# Altium footprint library Pattern No3d 20090609.PcbLib: 323 footprints (part 17 of 22)
Each footprint in its own frame and in the unit in brackets; x right, y up, seen from the top. Pads: shape width x height; smd on the part's side, far side on the other; paste and mask are expansions set on the pad; w line width, h text height; cw(c..) or ccw(c..) is an arc to the next point about the centre after c.
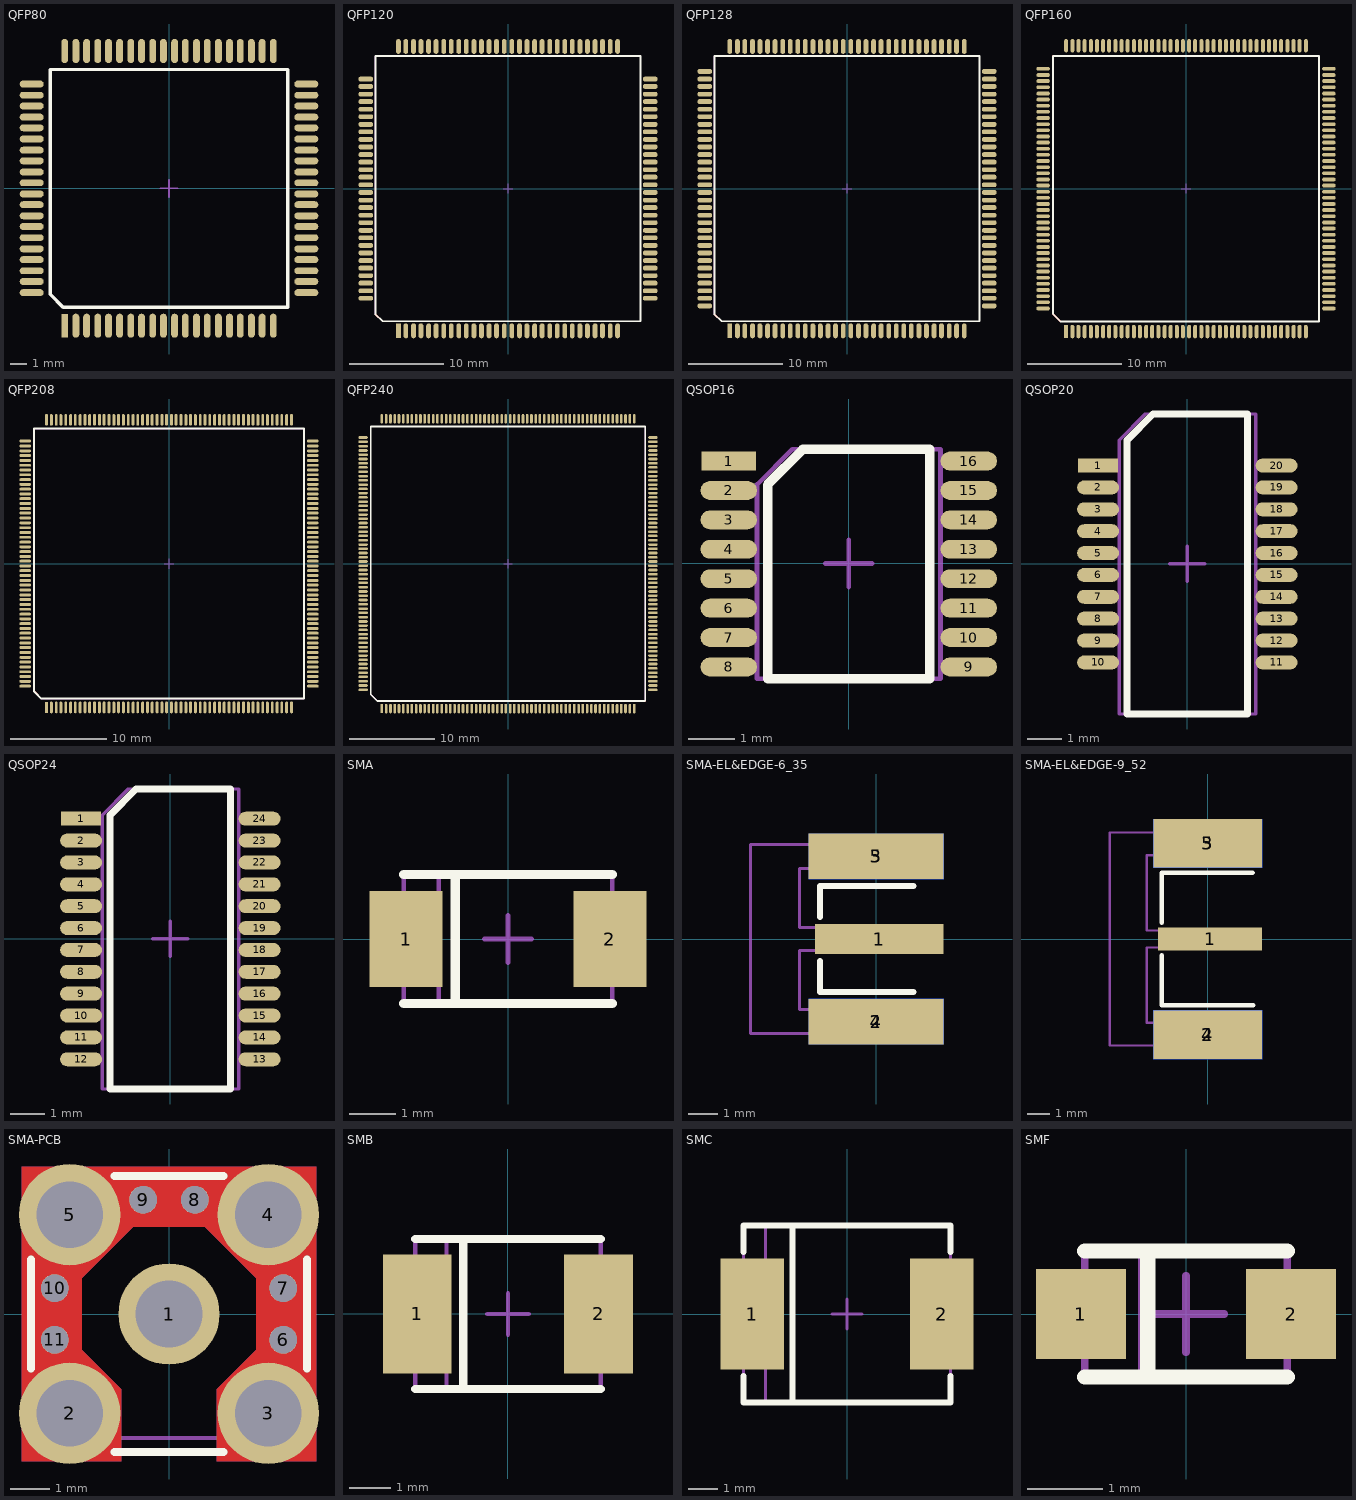
[diagram p16: the footprints below, top view; thin cyan lines are the x and y axes]

## QFP80 [mil] "http://www.nxp.com/acrobat_download/packages/SOT496-1.pdf"
pads (80):
  rect 16x54 smd mask-1000: 1(-243,-320)
  oval 16x56 smd mask-1000: 2(-217,-320) 3(-192,-320) 4(-166,-320) 5(-141,-320) 6(-115,-320) 7(-89,-320) 8(-64,-320) 9(-38,-320) 10(-13,-320) 11(13,-320) 12(38,-320) 13(64,-320) 14(89,-320) 15(115,-320) 16(141,-320) 17(166,-320) 18(192,-320) 19(217,-320) 20(243,-320) 41(243,320) 42(217,320) 43(192,320) 44(166,320) 45(141,320) 46(115,320) 47(89,320) 48(64,320) 49(38,320) 50(13,320) 51(-13,320) 52(-38,320) 53(-64,320) 54(-89,320) 55(-115,320) 56(-141,320) 57(-166,320) 58(-192,320) 59(-217,320) 60(-243,320)
  oval 56x16 smd mask-1000: 21(320,-243) 22(320,-217) 23(320,-192) 24(320,-166) 25(320,-141) 26(320,-115) 27(320,-89) 28(320,-64) 29(320,-38) 30(320,-13) 31(320,13) 32(320,38) 33(320,64) 34(320,89) 35(320,115) 36(320,141) 37(320,166) 38(320,192) 39(320,217) 40(320,243) 61(-320,243) 62(-320,217) 63(-320,192) 64(-320,166) 65(-320,141) 66(-320,115) 67(-320,89) 68(-320,64) 69(-320,38) 70(-320,13) 71(-320,-13) 72(-320,-38) 73(-320,-64) 74(-320,-89) 75(-320,-115) 76(-320,-141) 77(-320,-166) 78(-320,-192) 79(-320,-217) 80(-320,-243)
Top Overlay:
  lines w8: -277,-247 -247,-277 277,-277 277,277 -277,277 -277,-247
Top Solder:
  region: -234,-351 -234,-289 -254,-289 -254,-351
  lines w18: -343,-217 -297,-217 ; -343,-192 -297,-192 ; -343,-166 -297,-166 ; -343,-141 -297,-141 ; -343,-115 -297,-115 ; -343,-89 -297,-89 ; -343,-64 -297,-64 ; -343,-38 -297,-38 ; -343,-13 -297,-13 ; -343,13 -297,13 ; -343,38 -297,38 ; -343,64 -297,64 ; -343,89 -297,89 ; -343,115 -297,115 ; -343,141 -297,141 ; -343,166 -297,166 ; -343,192 -297,192 ; -343,217 -297,217 ; -217,-343 -217,-297 ; -217,297 -217,343 ; -192,-343 -192,-297 ; -192,297 -192,343 ; -166,-343 -166,-297 ; -166,297 -166,343 ; -141,-343 -141,-297 ; -141,297 -141,343 ; -115,-343 -115,-297 ; -115,297 -115,343 ; -89,-343 -89,-297 ; -89,297 -89,343 ; -64,-343 -64,-297 ; -64,297 -64,343 ; -38,-343 -38,-297 ; -38,297 -38,343 ; -13,-343 -13,-297 ; -13,297 -13,343 ; 13,-343 13,-297 ; 13,297 13,343 ; 38,-343 38,-297 ; 38,297 38,343 ; 64,-343 64,-297 ; 64,297 64,343 ; 89,-343 89,-297 ; 89,297 89,343 ; 115,-343 115,-297 ; 115,297 115,343 ; 141,-343 141,-297 ; 141,297 141,343 ; 166,-343 166,-297 ; 166,297 166,343 ; 192,-343 192,-297 ; 192,297 192,343 ; 217,-343 217,-297 ; 217,297 217,343 ; 297,-217 343,-217 ; 297,-192 343,-192 ; 297,-166 343,-166 ; 297,-141 343,-141 ; 297,-115 343,-115 ; 297,-89 343,-89 ; 297,-64 343,-64 ; 297,-38 343,-38 ; 297,-13 343,-13 ; 297,13 343,13 ; 297,38 343,38 ; 297,64 343,64 ; 297,89 343,89 ; 297,115 343,115 ; 297,141 343,141 ; 297,166 343,166 ; 297,192 343,192 ; 297,217 343,217
  lines w20: -342,-244 -298,-244 ; -342,244 -298,244 ; -244,298 -244,342 ; 244,-342 244,-298 ; 244,298 244,342 ; 298,-244 342,-244 ; 298,244 342,244
Mechanical 1:
  lines w4: -277,-247 -247,-277 277,-277 277,277 -277,277 -277,-247
Mechanical 15:
  lines w4: -20,0 20,0 ; 0,-20 0,20

## QFP120 [mil] "http://www.nxp.com/acrobat_download/packages/SOT349-2.pdf"
pads (120):
  rect 20x60 smd mask-1000: 1(-457,-593)
  oval 20x62 smd mask-1000: 2(-426,-593) 3(-394,-593) 4(-363,-593) 5(-331,-593) 6(-300,-593) 7(-268,-593) 8(-237,-593) 9(-205,-593) 10(-174,-593) 11(-142,-593) 12(-111,-593) 13(-79,-593) 14(-48,-593) 15(-16,-593) 16(16,-593) 17(48,-593) 18(79,-593) 19(111,-593) 20(142,-593) 21(174,-593) 22(205,-593) 23(237,-593) 24(268,-593) 25(300,-593) 26(331,-593) 27(363,-593) 28(394,-593) 29(426,-593) 30(457,-593) 61(457,593) 62(426,593) 63(394,593) 64(363,593) 65(331,593) 66(300,593) 67(268,593) 68(237,593) 69(205,593) 70(174,593) 71(142,593) 72(111,593) 73(79,593) 74(48,593) 75(16,593) 76(-16,593) 77(-48,593) 78(-79,593) 79(-111,593) 80(-142,593) 81(-174,593) 82(-205,593) 83(-237,593) 84(-268,593) 85(-300,593) 86(-331,593) 87(-363,593) 88(-394,593) 89(-426,593) 90(-457,593)
  oval 62x20 smd mask-1000: 31(593,-457) 32(593,-426) 33(593,-394) 34(593,-363) 35(593,-331) 36(593,-300) 37(593,-268) 38(593,-237) 39(593,-205) 40(593,-174) 41(593,-142) 42(593,-111) 43(593,-79) 44(593,-48) 45(593,-16) 46(593,16) 47(593,48) 48(593,79) 49(593,111) 50(593,142) 51(593,174) 52(593,205) 53(593,237) 54(593,268) 55(593,300) 56(593,331) 57(593,363) 58(593,394) 59(593,426) 60(593,457) 91(-593,457) 92(-593,426) 93(-593,394) 94(-593,363) 95(-593,331) 96(-593,300) 97(-593,268) 98(-593,237) 99(-593,205) 100(-593,174) 101(-593,142) 102(-593,111) 103(-593,79) 104(-593,48) 105(-593,16) 106(-593,-16) 107(-593,-48) 108(-593,-79) 109(-593,-111) 110(-593,-142) 111(-593,-174) 112(-593,-205) 113(-593,-237) 114(-593,-268) 115(-593,-300) 116(-593,-331) 117(-593,-363) 118(-593,-394) 119(-593,-426) 120(-593,-457)
Top Overlay:
  lines w8: -553,-523 -523,-553 553,-553 553,553 -553,553 -553,-523
Top Solder:
  region: -445,-627 -445,-559 -471,-559 -471,-627
  lines w24: -616,-426 -570,-426 ; -616,-394 -570,-394 ; -616,-363 -570,-363 ; -616,-331 -570,-331 ; -616,-300 -570,-300 ; -616,-268 -570,-268 ; -616,-237 -570,-237 ; -616,-205 -570,-205 ; -616,-174 -570,-174 ; -616,-142 -570,-142 ; -616,-111 -570,-111 ; -616,-79 -570,-79 ; -616,-48 -570,-48 ; -616,-16 -570,-16 ; -616,16 -570,16 ; -616,48 -570,48 ; -616,79 -570,79 ; -616,111 -570,111 ; -616,142 -570,142 ; -616,174 -570,174 ; -616,205 -570,205 ; -616,237 -570,237 ; -616,268 -570,268 ; -616,300 -570,300 ; -616,331 -570,331 ; -616,363 -570,363 ; -616,394 -570,394 ; -616,426 -570,426 ; -426,-616 -426,-570 ; -426,570 -426,616 ; -394,-616 -394,-570 ; -394,570 -394,616 ; -363,-616 -363,-570 ; -363,570 -363,616 ; -331,-616 -331,-570 ; -331,570 -331,616 ; -300,-616 -300,-570 ; -300,570 -300,616 ; -268,-616 -268,-570 ; -268,570 -268,616 ; -237,-616 -237,-570 ; -237,570 -237,616 ; -205,-616 -205,-570 ; -205,570 -205,616 ; -174,-616 -174,-570 ; -174,570 -174,616 ; -142,-616 -142,-570 ; -142,570 -142,616 ; -111,-616 -111,-570 ; -111,570 -111,616 ; -79,-616 -79,-570 ; -79,570 -79,616 ; -48,-616 -48,-570 ; -48,570 -48,616 ; -16,-616 -16,-570 ; -16,570 -16,616 ; 16,-616 16,-570 ; 16,570 16,616 ; 48,-616 48,-570 ; 48,570 48,616 ; 79,-616 79,-570 ; 79,570 79,616 ; 111,-616 111,-570 ; 111,570 111,616 ; 142,-616 142,-570 ; 142,570 142,616 ; 174,-616 174,-570 ; 174,570 174,616 ; 205,-616 205,-570 ; 205,570 205,616 ; 237,-616 237,-570 ; 237,570 237,616 ; 268,-616 268,-570 ; 268,570 268,616 ; 300,-616 300,-570 ; 300,570 300,616 ; 331,-616 331,-570 ; 331,570 331,616 ; 363,-616 363,-570 ; 363,570 363,616 ; 394,-616 394,-570 ; 394,570 394,616 ; 426,-616 426,-570 ; 426,570 426,616 ; 570,-426 616,-426 ; 570,-394 616,-394 ; 570,-363 616,-363 ; 570,-331 616,-331 ; 570,-300 616,-300 ; 570,-268 616,-268 ; 570,-237 616,-237 ; 570,-205 616,-205 ; 570,-174 616,-174 ; 570,-142 616,-142 ; 570,-111 616,-111 ; 570,-79 616,-79 ; 570,-48 616,-48 ; 570,-16 616,-16 ; 570,16 616,16 ; 570,48 616,48 ; 570,79 616,79 ; 570,111 616,111 ; 570,142 616,142 ; 570,174 616,174 ; 570,205 616,205 ; 570,237 616,237 ; 570,268 616,268 ; 570,300 616,300 ; 570,331 616,331 ; 570,363 616,363 ; 570,394 616,394 ; 570,426 616,426
  lines w26: -615,-458 -571,-458 ; -615,458 -571,458 ; -458,571 -458,615 ; 458,-615 458,-571 ; 458,571 458,615 ; 571,-458 615,-458 ; 571,458 615,458
Mechanical 1:
  lines w4: -553,-523 -523,-553 553,-553 553,553 -553,553 -553,-523
Mechanical 15:
  lines w4: -20,0 20,0 ; 0,-20 0,20

## QFP128 [mil] "http://www.nxp.com/acrobat_download/packages/SOT320-2.pdf"
pads (128):
  rect 20x60 smd mask-1000: 1(-489,-593)
  oval 20x62 smd mask-1000: 2(-457,-593) 3(-426,-593) 4(-394,-593) 5(-363,-593) 6(-331,-593) 7(-300,-593) 8(-268,-593) 9(-237,-593) 10(-205,-593) 11(-174,-593) 12(-142,-593) 13(-111,-593) 14(-79,-593) 15(-48,-593) 16(-16,-593) 17(16,-593) 18(48,-593) 19(79,-593) 20(111,-593) 21(142,-593) 22(174,-593) 23(205,-593) 24(237,-593) 25(268,-593) 26(300,-593) 27(331,-593) 28(363,-593) 29(394,-593) 30(426,-593) 31(457,-593) 32(489,-593) 65(489,593) 66(457,593) 67(426,593) 68(394,593) 69(363,593) 70(331,593) 71(300,593) 72(268,593) 73(237,593) 74(205,593) 75(174,593) 76(142,593) 77(111,593) 78(79,593) 79(48,593) 80(16,593) 81(-16,593) 82(-48,593) 83(-79,593) 84(-111,593) 85(-142,593) 86(-174,593) 87(-205,593) 88(-237,593) 89(-268,593) 90(-300,593) 91(-331,593) 92(-363,593) 93(-394,593) 94(-426,593) 95(-457,593) 96(-489,593)
  oval 62x20 smd mask-1000: 33(593,-489) 34(593,-457) 35(593,-426) 36(593,-394) 37(593,-363) 38(593,-331) 39(593,-300) 40(593,-268) 41(593,-237) 42(593,-205) 43(593,-174) 44(593,-142) 45(593,-111) 46(593,-79) 47(593,-48) 48(593,-16) 49(593,16) 50(593,48) 51(593,79) 52(593,111) 53(593,142) 54(593,174) 55(593,205) 56(593,237) 57(593,268) 58(593,300) 59(593,331) 60(593,363) 61(593,394) 62(593,426) 63(593,457) 64(593,489) 97(-593,489) 98(-593,457) 99(-593,426) 100(-593,394) 101(-593,363) 102(-593,331) 103(-593,300) 104(-593,268) 105(-593,237) 106(-593,205) 107(-593,174) 108(-593,142) 109(-593,111) 110(-593,79) 111(-593,48) 112(-593,16) 113(-593,-16) 114(-593,-48) 115(-593,-79) 116(-593,-111) 117(-593,-142) 118(-593,-174) 119(-593,-205) 120(-593,-237) 121(-593,-268) 122(-593,-300) 123(-593,-331) 124(-593,-363) 125(-593,-394) 126(-593,-426) 127(-593,-457) 128(-593,-489)
Top Overlay:
  lines w8: -553,-523 -523,-553 553,-553 553,553 -553,553 -553,-523
Top Solder:
  region: -477,-627 -477,-559 -503,-559 -503,-627
  lines w24: -616,-457 -570,-457 ; -616,-426 -570,-426 ; -616,-394 -570,-394 ; -616,-363 -570,-363 ; -616,-331 -570,-331 ; -616,-300 -570,-300 ; -616,-268 -570,-268 ; -616,-237 -570,-237 ; -616,-205 -570,-205 ; -616,-174 -570,-174 ; -616,-142 -570,-142 ; -616,-111 -570,-111 ; -616,-79 -570,-79 ; -616,-48 -570,-48 ; -616,-16 -570,-16 ; -616,16 -570,16 ; -616,48 -570,48 ; -616,79 -570,79 ; -616,111 -570,111 ; -616,142 -570,142 ; -616,174 -570,174 ; -616,205 -570,205 ; -616,237 -570,237 ; -616,268 -570,268 ; -616,300 -570,300 ; -616,331 -570,331 ; -616,363 -570,363 ; -616,394 -570,394 ; -616,426 -570,426 ; -616,457 -570,457 ; -457,-616 -457,-570 ; -457,570 -457,616 ; -426,-616 -426,-570 ; -426,570 -426,616 ; -394,-616 -394,-570 ; -394,570 -394,616 ; -363,-616 -363,-570 ; -363,570 -363,616 ; -331,-616 -331,-570 ; -331,570 -331,616 ; -300,-616 -300,-570 ; -300,570 -300,616 ; -268,-616 -268,-570 ; -268,570 -268,616 ; -237,-616 -237,-570 ; -237,570 -237,616 ; -205,-616 -205,-570 ; -205,570 -205,616 ; -174,-616 -174,-570 ; -174,570 -174,616 ; -142,-616 -142,-570 ; -142,570 -142,616 ; -111,-616 -111,-570 ; -111,570 -111,616 ; -79,-616 -79,-570 ; -79,570 -79,616 ; -48,-616 -48,-570 ; -48,570 -48,616 ; -16,-616 -16,-570 ; -16,570 -16,616 ; 16,-616 16,-570 ; 16,570 16,616 ; 48,-616 48,-570 ; 48,570 48,616 ; 79,-616 79,-570 ; 79,570 79,616 ; 111,-616 111,-570 ; 111,570 111,616 ; 142,-616 142,-570 ; 142,570 142,616 ; 174,-616 174,-570 ; 174,570 174,616 ; 205,-616 205,-570 ; 205,570 205,616 ; 237,-616 237,-570 ; 237,570 237,616 ; 268,-616 268,-570 ; 268,570 268,616 ; 300,-616 300,-570 ; 300,570 300,616 ; 331,-616 331,-570 ; 331,570 331,616 ; 363,-616 363,-570 ; 363,570 363,616 ; 394,-616 394,-570 ; 394,570 394,616 ; 426,-616 426,-570 ; 426,570 426,616 ; 457,-616 457,-570 ; 457,570 457,616 ; 570,-457 616,-457 ; 570,-426 616,-426 ; 570,-394 616,-394 ; 570,-363 616,-363 ; 570,-331 616,-331 ; 570,-300 616,-300 ; 570,-268 616,-268 ; 570,-237 616,-237 ; 570,-205 616,-205 ; 570,-174 616,-174 ; 570,-142 616,-142 ; 570,-111 616,-111 ; 570,-79 616,-79 ; 570,-48 616,-48 ; 570,-16 616,-16 ; 570,16 616,16 ; 570,48 616,48 ; 570,79 616,79 ; 570,111 616,111 ; 570,142 616,142 ; 570,174 616,174 ; 570,205 616,205 ; 570,237 616,237 ; 570,268 616,268 ; 570,300 616,300 ; 570,331 616,331 ; 570,363 616,363 ; 570,394 616,394 ; 570,426 616,426 ; 570,457 616,457
  lines w26: -615,-490 -571,-490 ; -615,490 -571,490 ; -490,571 -490,615 ; 490,-615 490,-571 ; 490,571 490,615 ; 571,-490 615,-490 ; 571,490 615,490
Mechanical 1:
  lines w4: -553,-523 -523,-553 553,-553 553,553 -553,553 -553,-523
Mechanical 15:
  lines w4: -20,0 20,0 ; 0,-20 0,20

## QFP160 [mil] "http://www.nxp.com/acrobat_download/packages/SOT322-2.pdf"
pads (160):
  rect 16x54 smd mask-1000: 1(-499,-595)
  oval 16x56 smd mask-1000: 2(-473,-595) 3(-448,-595) 4(-422,-595) 5(-396,-595) 6(-371,-595) 7(-345,-595) 8(-320,-595) 9(-294,-595) 10(-268,-595) 11(-243,-595) 12(-217,-595) 13(-192,-595) 14(-166,-595) 15(-141,-595) 16(-115,-595) 17(-89,-595) 18(-64,-595) 19(-38,-595) 20(-13,-595) 21(13,-595) 22(38,-595) 23(64,-595) 24(89,-595) 25(115,-595) 26(141,-595) 27(166,-595) 28(192,-595) 29(217,-595) 30(243,-595) 31(268,-595) 32(294,-595) 33(320,-595) 34(345,-595) 35(371,-595) 36(396,-595) 37(422,-595) 38(448,-595) 39(473,-595) 40(499,-595) 81(499,595) 82(473,595) 83(448,595) 84(422,595) 85(396,595) 86(371,595) 87(345,595) 88(320,595) 89(294,595) 90(268,595) 91(243,595) 92(217,595) 93(192,595) 94(166,595) 95(141,595) 96(115,595) 97(89,595) 98(64,595) 99(38,595) 100(13,595) 101(-13,595) 102(-38,595) 103(-64,595) 104(-89,595) 105(-115,595) 106(-141,595) 107(-166,595) 108(-192,595) 109(-217,595) 110(-243,595) 111(-268,595) 112(-294,595) 113(-320,595) 114(-345,595) 115(-371,595) 116(-396,595) 117(-422,595) 118(-448,595) 119(-473,595) 120(-499,595)
  oval 56x16 smd mask-1000: 41(595,-499) 42(595,-473) 43(595,-448) 44(595,-422) 45(595,-396) 46(595,-371) 47(595,-345) 48(595,-320) 49(595,-294) 50(595,-268) 51(595,-243) 52(595,-217) 53(595,-192) 54(595,-166) 55(595,-141) 56(595,-115) 57(595,-89) 58(595,-64) 59(595,-38) 60(595,-13) 61(595,13) 62(595,38) 63(595,64) 64(595,89) 65(595,115) 66(595,141) 67(595,166) 68(595,192) 69(595,217) 70(595,243) 71(595,268) 72(595,294) 73(595,320) 74(595,345) 75(595,371) 76(595,396) 77(595,422) 78(595,448) 79(595,473) 80(595,499) 121(-595,499) 122(-595,473) 123(-595,448) 124(-595,422) 125(-595,396) 126(-595,371) 127(-595,345) 128(-595,320) 129(-595,294) 130(-595,268) 131(-595,243) 132(-595,217) 133(-595,192) 134(-595,166) 135(-595,141) 136(-595,115) 137(-595,89) 138(-595,64) 139(-595,38) 140(-595,13) 141(-595,-13) 142(-595,-38) 143(-595,-64) 144(-595,-89) 145(-595,-115) 146(-595,-141) 147(-595,-166) 148(-595,-192) 149(-595,-217) 150(-595,-243) 151(-595,-268) 152(-595,-294) 153(-595,-320) 154(-595,-345) 155(-595,-371) 156(-595,-396) 157(-595,-422) 158(-595,-448) 159(-595,-473) 160(-595,-499)
Top Overlay:
  lines w8: -553,-523 -553,553 553,553 553,-553 -523,-553 -553,-523
Top Solder:
  drawing of 160 lines, arcs and shapes, not listed
Mechanical 1:
  lines w4: -553,-523 -553,553 553,553 553,-553 -523,-553 -553,-523
Mechanical 15:
  lines w4: -20,0 20,0 ; 0,-20 0,20

## QFP208 [mil] "http://www.nxp.com/acrobat_download/packages/SOT316-1.pdf"
pads (208):
  rect 12x46 smd mask-1000: 1(-502,-589)
  oval 12x48 smd mask-1000: 2(-482,-589) 3(-462,-589) 4(-443,-589) 5(-423,-589) 6(-403,-589) 7(-384,-589) 8(-364,-589) 9(-344,-589) 10(-325,-589) 11(-305,-589) 12(-285,-589) 13(-266,-589) 14(-246,-589) 15(-226,-589) 16(-207,-589) 17(-187,-589) 18(-167,-589) 19(-147,-589) 20(-128,-589) 21(-108,-589) 22(-88,-589) 23(-69,-589) 24(-49,-589) 25(-29,-589) 26(-10,-589) 27(10,-589) 28(29,-589) 29(49,-589) 30(69,-589) 31(88,-589) 32(108,-589) 33(128,-589) 34(147,-589) 35(167,-589) 36(187,-589) 37(207,-589) 38(226,-589) 39(246,-589) 40(266,-589) 41(285,-589) 42(305,-589) 43(325,-589) 44(344,-589) 45(364,-589) 46(384,-589) 47(403,-589) 48(423,-589) 49(443,-589) 50(462,-589) 51(482,-589) 52(502,-589) 105(502,589) 106(482,589) 107(462,589) 108(443,589) 109(423,589) 110(403,589) 111(384,589) 112(364,589) 113(344,589) 114(325,589) 115(305,589) 116(285,589) 117(266,589) 118(246,589) 119(226,589) 120(207,589) 121(187,589) 122(167,589) 123(147,589) 124(128,589) 125(108,589) 126(88,589) 127(69,589) 128(49,589) 129(29,589) 130(10,589) 131(-10,589) 132(-29,589) 133(-49,589) 134(-69,589) 135(-88,589) 136(-108,589) 137(-128,589) 138(-147,589) 139(-167,589) 140(-187,589) 141(-207,589) 142(-226,589) 143(-246,589) 144(-266,589) 145(-285,589) 146(-305,589) 147(-325,589) 148(-344,589) 149(-364,589) 150(-384,589) 151(-403,589) 152(-423,589) 153(-443,589) 154(-462,589) 155(-482,589) 156(-502,589)
  oval 48x12 smd mask-1000: 53(589,-502) 54(589,-482) 55(589,-462) 56(589,-443) 57(589,-423) 58(589,-403) 59(589,-384) 60(589,-364) 61(589,-344) 62(589,-325) 63(589,-305) 64(589,-285) 65(589,-266) 66(589,-246) 67(589,-226) 68(589,-207) 69(589,-187) 70(589,-167) 71(589,-147) 72(589,-128) 73(589,-108) 74(589,-88) 75(589,-69) 76(589,-49) 77(589,-29) 78(589,-10) 79(589,10) 80(589,29) 81(589,49) 82(589,69) 83(589,88) 84(589,108) 85(589,128) 86(589,147) 87(589,167) 88(589,187) 89(589,207) 90(589,226) 91(589,246) 92(589,266) 93(589,285) 94(589,305) 95(589,325) 96(589,344) 97(589,364) 98(589,384) 99(589,403) 100(589,423) 101(589,443) 102(589,462) 103(589,482) 104(589,502) 157(-589,502) 158(-589,482) 159(-589,462) 160(-589,443) 161(-589,423) 162(-589,403) 163(-589,384) 164(-589,364) 165(-589,344) 166(-589,325) 167(-589,305) 168(-589,285) 169(-589,266) 170(-589,246) 171(-589,226) 172(-589,207) 173(-589,187) 174(-589,167) 175(-589,147) 176(-589,128) 177(-589,108) 178(-589,88) 179(-589,69) 180(-589,49) 181(-589,29) 182(-589,10) 183(-589,-10) 184(-589,-29) 185(-589,-49) 186(-589,-69) 187(-589,-88) 188(-589,-108) 189(-589,-128) 190(-589,-147) 191(-589,-167) 192(-589,-187) 193(-589,-207) 194(-589,-226) 195(-589,-246) 196(-589,-266) 197(-589,-285) 198(-589,-305) 199(-589,-325) 200(-589,-344) 201(-589,-364) 202(-589,-384) 203(-589,-403) 204(-589,-423) 205(-589,-443) 206(-589,-462) 207(-589,-482) 208(-589,-502)
Top Overlay:
  lines w8: -553,-523 -523,-553 553,-553 553,553 -553,553 -553,-523
Top Solder:
  drawing of 208 lines, arcs and shapes, not listed
Mechanical 1:
  lines w4: -553,-523 -523,-553 553,-553 553,553 -553,553 -553,-523
Mechanical 15:
  lines w4: -20,0 20,0 ; 0,-20 0,20

## QFP240 [mil] "http://www.analog.com/static/imported-files/packages/59748450094758745169714887593S_240.pdf"
pads (240):
  rect 12x42 smd mask-1000: 1(-581,-667)
  oval 12x44 smd mask-1000: 2(-561,-667) 3(-541,-667) 4(-521,-667) 5(-502,-667) 6(-482,-667) 7(-462,-667) 8(-443,-667) 9(-423,-667) 10(-403,-667) 11(-384,-667) 12(-364,-667) 13(-344,-667) 14(-325,-667) 15(-305,-667) 16(-285,-667) 17(-266,-667) 18(-246,-667) 19(-226,-667) 20(-207,-667) 21(-187,-667) 22(-167,-667) 23(-147,-667) 24(-128,-667) 25(-108,-667) 26(-88,-667) 27(-69,-667) 28(-49,-667) 29(-29,-667) 30(-10,-667) 31(10,-667) 32(29,-667) 33(49,-667) 34(69,-667) 35(88,-667) 36(108,-667) 37(128,-667) 38(147,-667) 39(167,-667) 40(187,-667) 41(207,-667) 42(226,-667) 43(246,-667) 44(266,-667) 45(285,-667) 46(305,-667) 47(325,-667) 48(344,-667) 49(364,-667) 50(384,-667) 51(403,-667) 52(423,-667) 53(443,-667) 54(462,-667) 55(482,-667) 56(502,-667) 57(521,-667) 58(541,-667) 59(561,-667) 60(581,-667) 121(581,667) 122(561,667) 123(541,667) 124(521,667) 125(502,667) 126(482,667) 127(462,667) 128(443,667) 129(423,667) 130(403,667) 131(384,667) 132(364,667) 133(344,667) 134(325,667) 135(305,667) 136(285,667) 137(266,667) 138(246,667) 139(226,667) 140(207,667) 141(187,667) 142(167,667) 143(147,667) 144(128,667) 145(108,667) 146(88,667) 147(69,667) 148(49,667) 149(29,667) 150(10,667) 151(-10,667) 152(-29,667) 153(-49,667) 154(-69,667) 155(-88,667) 156(-108,667) 157(-128,667) 158(-147,667) 159(-167,667) 160(-187,667) 161(-207,667) 162(-226,667) 163(-246,667) 164(-266,667) 165(-285,667) 166(-305,667) 167(-325,667) 168(-344,667) 169(-364,667) 170(-384,667) 171(-403,667) 172(-423,667) 173(-443,667) 174(-462,667) 175(-482,667) 176(-502,667) 177(-521,667) 178(-541,667) 179(-561,667) 180(-581,667)
  oval 44x12 smd mask-1000: 61(667,-581) 62(667,-561) 63(667,-541) 64(667,-521) 65(667,-502) 66(667,-482) 67(667,-462) 68(667,-443) 69(667,-423) 70(667,-403) 71(667,-384) 72(667,-364) 73(667,-344) 74(667,-325) 75(667,-305) 76(667,-285) 77(667,-266) 78(667,-246) 79(667,-226) 80(667,-207) 81(667,-187) 82(667,-167) 83(667,-147) 84(667,-128) 85(667,-108) 86(667,-88) 87(667,-69) 88(667,-49) 89(667,-29) 90(667,-10) 91(667,10) 92(667,29) 93(667,49) 94(667,69) 95(667,88) 96(667,108) 97(667,128) 98(667,147) 99(667,167) 100(667,187) 101(667,207) 102(667,226) 103(667,246) 104(667,266) 105(667,285) 106(667,305) 107(667,325) 108(667,344) 109(667,364) 110(667,384) 111(667,403) 112(667,423) 113(667,443) 114(667,462) 115(667,482) 116(667,502) 117(667,521) 118(667,541) 119(667,561) 120(667,581) 181(-667,581) 182(-667,561) 183(-667,541) 184(-667,521) 185(-667,502) 186(-667,482) 187(-667,462) 188(-667,443) 189(-667,423) 190(-667,403) 191(-667,384) 192(-667,364) 193(-667,344) 194(-667,325) 195(-667,305) 196(-667,285) 197(-667,266) 198(-667,246) 199(-667,226) 200(-667,207) 201(-667,187) 202(-667,167) 203(-667,147) 204(-667,128) 205(-667,108) 206(-667,88) 207(-667,69) 208(-667,49) 209(-667,29) 210(-667,10) 211(-667,-10) 212(-667,-29) 213(-667,-49) 214(-667,-69) 215(-667,-88) 216(-667,-108) 217(-667,-128) 218(-667,-147) 219(-667,-167) 220(-667,-187) 221(-667,-207) 222(-667,-226) 223(-667,-246) 224(-667,-266) 225(-667,-285) 226(-667,-305) 227(-667,-325) 228(-667,-344) 229(-667,-364) 230(-667,-384) 231(-667,-403) 232(-667,-423) 233(-667,-443) 234(-667,-462) 235(-667,-482) 236(-667,-502) 237(-667,-521) 238(-667,-541) 239(-667,-561) 240(-667,-581)
Top Overlay:
  lines w8: -632,-602 -602,-632 632,-632 632,632 -632,632 -632,-602
Top Solder:
  drawing of 240 lines, arcs and shapes, not listed
Mechanical 1:
  lines w4: -632,-602 -632,632 632,632 632,-632 -602,-632 -632,-602
Mechanical 15:
  lines w4: -20,0 20,0 ; 0,-20 0,20

## QSOP16 [mil] "http://www.nxp.com/acrobat_download/packages/SOT519-1.pdf"
pads (16):
  rect 46x16 smd mask-1000: 1(-102,87)
  oval 48x16 smd mask-1000: 2(-102,62) 3(-102,37) 4(-102,12) 5(-102,-13) 6(-102,-38) 7(-102,-63) 8(-102,-88) 9(102,-88) 10(102,-63) 11(102,-38) 12(102,-13) 13(102,12) 14(102,37) 15(102,62) 16(102,87)
Top Overlay:
  lines w8: -69,-98 69,-98 69,97 -39,97 -69,67 -69,-98
Top Solder:
  region: -129,78 -75,78 -75,98 -129,98
  lines w18: -121,-63 -83,-63 ; -121,-38 -83,-38 ; -121,-13 -83,-13 ; -121,12 -83,12 ; -121,37 -83,37 ; -121,62 -83,62 ; 83,-63 121,-63 ; 83,-38 121,-38 ; 83,-13 121,-13 ; 83,12 121,12 ; 83,37 121,37 ; 83,62 121,62
  lines w20: -120,-89 -84,-89 ; 84,-89 120,-89 ; 84,88 120,88
Mechanical 1:
  lines w4: -78,-98 78,-98 78,97 -48,97 -78,67 -78,-98
Mechanical 15:
  lines w4: -20,0 20,0 ; 0,-20 0,20

## QSOP20 [mil] "http://www.nxp.com/acrobat_download/packages/SOT724-1.pdf"
pads (20):
  rect 46x16 smd mask-1000: 1(-102,112)
  oval 48x16 smd mask-1000: 2(-102,87) 3(-102,62) 4(-102,37) 5(-102,12) 6(-102,-13) 7(-102,-38) 8(-102,-63) 9(-102,-88) 10(-102,-113) 11(102,-113) 12(102,-88) 13(102,-63) 14(102,-38) 15(102,-13) 16(102,12) 17(102,37) 18(102,62) 19(102,87) 20(102,112)
Top Overlay:
  lines w8: -69,-172 69,-172 69,171 -39,171 -69,141 -69,-172
Top Solder:
  region: -129,103 -75,103 -75,123 -129,123
  lines w18: -121,-88 -83,-88 ; -121,-63 -83,-63 ; -121,-38 -83,-38 ; -121,-13 -83,-13 ; -121,12 -83,12 ; -121,37 -83,37 ; -121,62 -83,62 ; -121,87 -83,87 ; 83,-88 121,-88 ; 83,-63 121,-63 ; 83,-38 121,-38 ; 83,-13 121,-13 ; 83,12 121,12 ; 83,37 121,37 ; 83,62 121,62 ; 83,87 121,87
  lines w20: -120,-114 -84,-114 ; 84,-114 120,-114 ; 84,113 120,113
Mechanical 1:
  lines w4: -78,-172 78,-172 78,171 -48,171 -78,141 -78,-172
Mechanical 15:
  lines w4: -20,0 20,0 ; 0,-20 0,20

## QSOP24 [mil] "http://www.nxp.com/acrobat_download/packages/SOT556-1.pdf"
pads (24):
  rect 46x16 smd mask-1000: 1(-102,137)
  oval 48x16 smd mask-1000: 2(-102,112) 3(-102,87) 4(-102,62) 5(-102,37) 6(-102,12) 7(-102,-13) 8(-102,-38) 9(-102,-63) 10(-102,-88) 11(-102,-113) 12(-102,-138) 13(102,-138) 14(102,-113) 15(102,-88) 16(102,-63) 17(102,-38) 18(102,-13) 19(102,12) 20(102,37) 21(102,62) 22(102,87) 23(102,112) 24(102,137)
Top Overlay:
  lines w8: -69,-172 -69,141 -39,171 69,171 69,-172 -69,-172
Top Solder:
  region: -129,128 -75,128 -75,148 -129,148
  lines w18: -121,-113 -83,-113 ; -121,-88 -83,-88 ; -121,-63 -83,-63 ; -121,-38 -83,-38 ; -121,-13 -83,-13 ; -121,12 -83,12 ; -121,37 -83,37 ; -121,62 -83,62 ; -121,87 -83,87 ; -121,112 -83,112 ; 83,-113 121,-113 ; 83,-88 121,-88 ; 83,-63 121,-63 ; 83,-38 121,-38 ; 83,-13 121,-13 ; 83,12 121,12 ; 83,37 121,37 ; 83,62 121,62 ; 83,87 121,87 ; 83,112 121,112
  lines w20: -120,-139 -84,-139 ; 84,-139 120,-139 ; 84,138 120,138
Mechanical 1:
  lines w4: -78,-172 -78,141 -48,171 78,171 78,-172 -78,-172
Mechanical 15:
  lines w4: -20,0 20,0 ; 0,-20 0,20

## SMA [mil] "http://www.vishay.com/docs/95018/sma.pdf"
pads (2):
  rect 62x82 smd mask+4: 1(-87,0) 2(87,0)
Top Overlay:
  lines w8: -89,-55 89,-55 ; -89,55 89,55 ; -45,-55 -45,55
Mechanical 1:
  lines w4: -59,-55 -59,55 ; -89,-55 89,-55 89,55 -89,55 -89,-55
Mechanical 15:
  lines w4: -20,0 20,0 ; 0,-20 0,20

## SMA-EL&EDGE-6_35 [mil] "http://radiall.applixia.net/catalogue/resource?path=CATEGORY/pdf/D1125CE.pdf (R125 423 200)"
pads (5):
  rect 170x40 smd mask+4: 1(4,0)
  rect 178x60 smd mask+4: 2(0,-109) 3(0,109)
  rect 178x60 smd far side mask+4: 4(0,-109) 5(0,109)
Top Overlay:
  lines w8: -74,-29 -74,-70 49,-70 ; -74,29 -74,70 49,70
Mechanical 1:
  lines w4: -166,-125 49,-125 49,-93 -101,-93 -101,-15 49,-15 49,15 -101,15 -101,93 49,93 49,125 -166,125 -166,-125

## SMA-EL&EDGE-9_52 [mil] "http://emersonnetworkpower.com/webapp/wcs/stores/servlet/ESC/resources/Johnson-RFC04-catalog.pdf (142-0701-801) http://emersonnetworkpower.com/webapp/wcs/stores/servlet/ESC/resources/Johnson-RFC04-catalog.pdf (142-0801-801)"
pads (5):
  rect 184x40 smd mask+4: 1(4,0)
  rect 192x86 smd mask+4: 2(0,-169) 3(0,169)
  rect 192x86 smd far side mask+4: 4(0,-169) 5(0,169)
Top Overlay:
  lines w8: -81,-29 -81,-117 80,-117 ; -81,29 -81,117 79,117
Mechanical 1:
  lines w4: -173,-188 -173,188 80,188 80,148 -108,148 -108,15 80,15 80,-15 -108,-15 -108,-148 80,-148 80,-188 -173,-188

## SMA-PCB [mil] "http://radiall.applixia.net/catalogue/resource?path=CATEGORY/pdf/D1125CE.pdf (R125 426 000) http://radiall.applixia.net/catalogue/resource?path=CATEGORY/pdf/D1125CE.pdf (R125 680 000)"
pads (11):
  round 102 hole 67 mask+4: 1(0,0) 2(-100,-100) 3(100,-100) 4(100,100) 5(-100,100)
  round 28 hole 28: 6(115,-26) 7(115,26) 8(26,115) 9(-26,115) 10(-115,26) 11(-115,-26)
Top Layer:
  region: -148,148 -148,-148 -48,-148 -48,-76 -88,-36 -88,36 -36,88 36,88 88,36 88,-36 48,-76 48,-148 148,-148 148,148
Bottom Layer:
  region: -148,148 -148,-148 -48,-148 -48,-76 -88,-36 -88,36 -36,88 36,88 88,36 88,-36 48,-76 48,-148 148,-148 148,148
Top Overlay:
  lines w8: -139,-55 -139,55 ; -55,-139 55,-139 ; -55,139 55,139 ; 139,-55 139,55
Mechanical 1:
  lines w4: -125,-125 -125,125 125,125 125,-125 -125,-125
Multi-Layer:
  region: -148,148 -148,-148 -48,-148 -48,-76 -88,-36 -88,36 -36,88 36,88 88,36 88,-36 48,-76 48,-148 148,-148 148,148

## SMB [mil] "http://www.vishay.com/docs/95017/smb.pdf"
pads (2):
  rect 66x114 smd mask+4: 1(-87,0) 2(87,0)
Top Overlay:
  lines w8: -89,-72 89,-72 ; -89,72 89,72 ; -43,-72 -43,72
Mechanical 1:
  lines w4: -59,-72 -59,72 ; -89,-72 89,-72 89,72 -89,72 -89,-72
Mechanical 15:
  lines w4: -20,0 20,0 ; 0,-20 0,20

## SMC [mil] "http://www.vishay.com/docs/95023/smc.pdf"
pads (2):
  rect 86x150 smd mask+4: 1(-128,0) 2(128,0)
Top Overlay:
  lines w8: -140,-84 -140,-120 140,-120 140,-84 ; -140,84 -140,120 140,120 140,84 ; -74,-120 -74,120
Mechanical 1:
  lines w4: -110,-120 -110,120 ; -140,-120 -140,120 140,120 140,-120 -140,-120
Mechanical 15:
  lines w4: -20,0 20,0 ; 0,-20 0,20

## SMF [mil] "http://www.vishay.com/docs/84023/smf.pdf"
pads (2):
  rect 47x47 smd mask+4: 1(-55,0) 2(55,0)
Top Overlay:
  lines w8: -53,-33 53,-33 ; -53,33 53,33 ; -20,-33 -20,33
Mechanical 1:
  lines w4: -23,-33 -23,33 ; -53,-33 53,-33 53,33 -53,33 -53,-33
Mechanical 15:
  lines w4: -20,0 20,0 ; 0,-20 0,20